# Altium schematic symbol library ALTAIR_PD_Capacitors.SchLib: 1 symbol
Pins are listed as number, name and electrical type; pins without a type are passive.

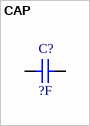
[diagram p0: symbol CAP]

## CAP
designator C?, comment ?F
Cap, Nonpolar, Any, Must choose footprint manually
footprint CAP 1206 UNKNOWN (Ceramic Capacitors, body 3.2x1.6mm, WCAP-CSGP_1206_L3.2W1.6H0.8)
footprint CAP 0603 IPC MID DENSITY
footprint CAP 0603 IPC MID DENSITY MURATA
footprint CAP 0603 NON-IPC KEMET X7R
footprint CAP 0805 NON-IPC KEMET X5R
footprint CAP 1206 IPC LOW DENSITY
footprint CAP 1206 NON-IPC KEMET NP0
pins: 1, 2